# Altium schematic symbol library CP2102N-A02-GQFN24R.SchLib: 1 symbol
Pins are listed as number, name and electrical type; pins without a type are passive.

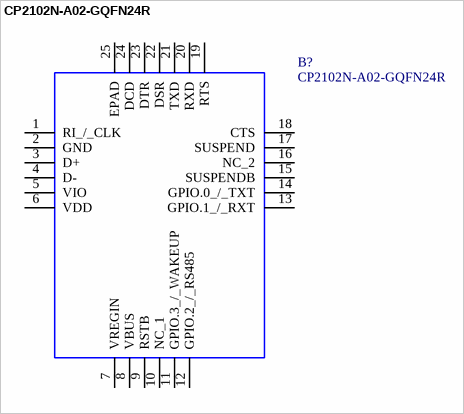
[diagram p0: symbol CP2102N-A02-GQFN24R]

## CP2102N-A02-GQFN24R
designator B?
USB Interface IC USB to UART bridge - QFN24; Manufacturer_Name: Silicon Labs; Geometry.Height: 0.8mm; Manufacturer_Part_Number: CP2102N-A02-GQFN24R; Mouser Part Number: 634-CP2102NA02QFN24R; Mouser Price/Stock: https://www.mouser.co.uk/ProductDetail/Silicon-Labs/CP2102N-A02-GQFN24R?qs=u16ybLDytRaIVBf0X4zL0g%3D%3D; Arrow Part Number: CP2102N-A02-GQFN24R; Arrow Price/Stock: https://www.arrow.com/en/products/cp2102n-a02-gqfn24r/silicon-labs?region=nac; Mouser Testing Part Number: *; Mouser Testing Price/Stock: *; Datasheet Link: https://www.silabs.com/documents/public/data-sheets/cp2102n-datasheet.pdf
footprint QFN50P400X400X80-25N-D
pins: 1 RI_/_CLK, 2 GND, 3 D+, 4 D-, 5 VIO, 6 VDD, 7 VREGIN, 8 VBUS, 9 RSTB, 10 NC_1, 11 GPIO.3_/_WAKEUP, 12 GPIO.2_/_RS485, 13 GPIO.1_/_RXT, 14 GPIO.0_/_TXT, 15 SUSPENDB, 16 NC_2, 17 SUSPEND, 18 CTS, 19 RTS, 20 RXD, 21 TXD, 22 DSR, 23 DTR, 24 DCD, 25 EPAD